# Altium integrated library Texas Instruments Power Management PWM Controller.IntLib: 1227 symbols (part 11 of 49)
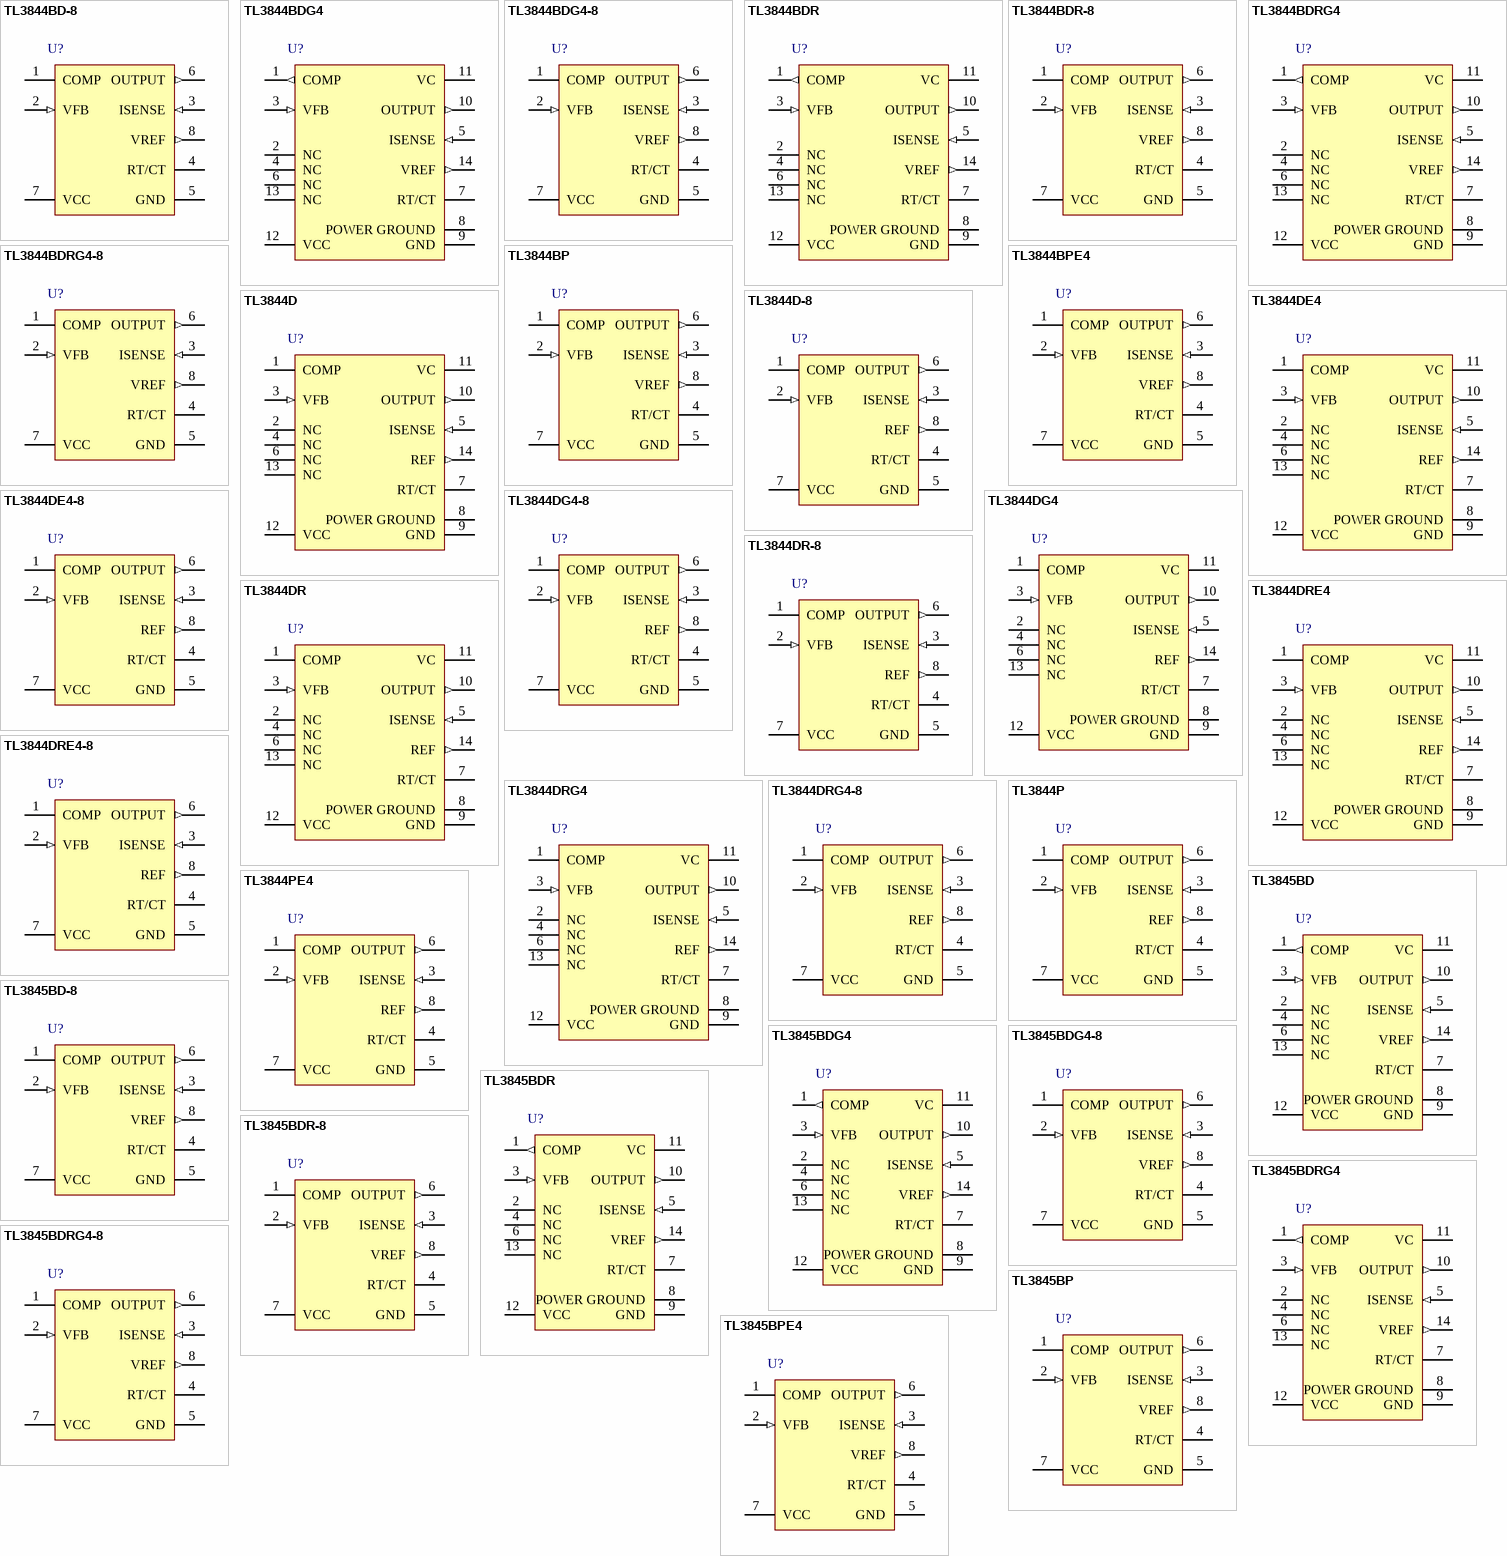
[diagram p53: symbols TL3844BD-8 to TL3845BPE4]

## TL3844DRG4
designator U?
PWM Controller with Current Control, 50 % Duty Cycle, 0 to +70 degC, 14-pin SOIC (D), Green (RoHS & no Sb/Br); PartNumber: TL3844DRG4; Manufacturer: Texas Instruments; Duty Cycle(Max)(%): 50; Frequency(Max)(kHz): 500; Rating: Catalog; Regulated Outputs(#): 1; Topology: Boost, Flyback, Forward; UVLO Thresholds On/Off(V): 16/10; DatasheetVersion: SLVS038G; PackageVersion: revM, Jun-2011; PackageReference: D14; PackageDescription: 14-Pin Plastic Small Outline Integrated Circuit, 8.7 x 3.9 mm, Pitch 1.27 mm Pitch; Supplier 1: Digi-Key; Supplier Part Number 1: TL3844DRG4-ND; Supplier 2: Newark; Supplier Part Number 2: 41M5663; Supplier 3: Mouser; Supplier Part Number 3: 595-TL3844DRG4; Control Method: Current; Eco-Plan: Green (RoHS & no Sb/Br); SubFamily: PWM Controller; Mounting Technology: Surface Mount; Code_JEDEC: MS-012AB; ComponentLink1Description: Datasheet; ComponentLink1URL: http://www.ti.com/general/docs/lit/getliterature.tsp?genericPartNumber=TL3844&fileType=pdf
footprint D14_N (SOIC, 14-Leads, Body 8.7x3.9mm, Pitch 1.27mm, IPC Medium Density)
footprint D14_L (SOIC, 14-Leads, Body 8.7x3.9mm, Pitch 1.27mm, IPC High Density)
footprint D14_M (SOIC, 14-Leads, Body 8.7x3.9mm, Pitch 1.27mm, IPC Low Density)
pins: 1 COMP, 2 NC, 3 VFB (in), 4 NC, 5 ISENSE (in), 6 NC, 7 RT/CT, 8 POWER GROUND (power), 9 GND (power), 10 OUTPUT (out), 11 VC (power), 12 VCC (power), 13 NC, 14 REF (out)

## TL3844DRG4-8
designator U?
PWM Controller with Current Control, 50 % Duty Cycle, 0 to +70 degC, 8-pin SOIC (D), Green (RoHS & no Sb/Br); PartNumber: TL3844DRG4-8; Manufacturer: Texas Instruments; Duty Cycle(Max)(%): 50; Frequency(Max)(kHz): 500; Rating: Catalog; Regulated Outputs(#): 1; Topology: Boost, Flyback, Forward; UVLO Thresholds On/Off(V): 16/10; DatasheetVersion: SLVS038G; PackageVersion: revM, Jun-2011; PackageReference: D8; PackageDescription: 8-Pin Plastic Small Outline Integrated Circuit, 4.9 x 3.9 mm, Pitch 1.27 mm Pitch; Supplier 1: Digi-Key; Supplier Part Number 1: TL3844DRG4-8-ND; Supplier 2: Newark; Supplier Part Number 2: 41M5664; Supplier 3: Mouser; Supplier Part Number 3: 595-TL3844DRG4-8; Control Method: Current; Eco-Plan: Green (RoHS & no Sb/Br); SubFamily: PWM Controller; Mounting Technology: Surface Mount; Code_JEDEC: MS-012AA; ComponentLink1Description: Datasheet; ComponentLink1URL: http://www.ti.com/general/docs/lit/getliterature.tsp?genericPartNumber=TL3844&fileType=pdf
footprint D8_N (SOIC, 8-Leads, Body 4.9x3.9mm, Pitch 1.27mm, IPC Medium Density)
footprint D8_L (SOIC, 8-Leads, Body 4.9x3.9mm, Pitch 1.27mm, IPC High Density)
footprint D8_M (SOIC, 8-Leads, Body 4.9x3.9mm, Pitch 1.27mm, IPC Low Density)
pins: 1 COMP, 2 VFB (in), 3 ISENSE (in), 4 RT/CT, 5 GND (power), 6 OUTPUT (out), 7 VCC (power), 8 REF (out)

## TL3844P
designator U?
PWM Controller with Current Control, 50 % Duty Cycle, 0 to +70 degC, 8-pin PDIP (P), Pb-Free (RoHS); PartNumber: TL3844P; Manufacturer: Texas Instruments; Duty Cycle(Max)(%): 50; Frequency(Max)(kHz): 500; Rating: Catalog; Regulated Outputs(#): 1; Topology: Boost, Flyback, Forward; UVLO Thresholds On/Off(V): 16/10; DatasheetVersion: SLVS038G; PackageVersion: revE, Apr-2010; PackageReference: P8; PackageDescription: 8-Pin Plastic Dual-In-Line Package, Row Spacing 7.62 mm, Pitch 2.54 mm; Supplier 1: Digi-Key; Supplier Part Number 1: 296-10178-5-ND; Supplier 2: Farnell; Supplier Part Number 2: 1287646; Supplier 3: Newark; Supplier Part Number 3: 76C9251; Supplier 4: Mouser; Supplier Part Number 4: 595-TL3844P; Control Method: Current; Eco-Plan: Pb-Free (RoHS); SubFamily: PWM Controller; Mounting Technology: Through Hole; Code_JEDEC: MS-001-BA; ComponentLink1Description: Datasheet; ComponentLink1URL: http://www.ti.com/general/docs/lit/getliterature.tsp?genericPartNumber=TL3844&fileType=pdf
footprint P8 (DIP, 8-Leads, Row Spacing 7.62mm, Pitch 2.54mm, Body 9.6x6.4mm)
pins: 1 COMP, 2 VFB (in), 3 ISENSE (in), 4 RT/CT, 5 GND (power), 6 OUTPUT (out), 7 VCC (power), 8 REF (out)

## TL3844PE4
designator U?
PWM Controller with Current Control, 50 % Duty Cycle, 0 to +70 degC, 8-pin PDIP (P), Pb-Free (RoHS); PartNumber: TL3844PE4; Manufacturer: Texas Instruments; Duty Cycle(Max)(%): 50; Frequency(Max)(kHz): 500; Rating: Catalog; Regulated Outputs(#): 1; Topology: Boost, Flyback, Forward; UVLO Thresholds On/Off(V): 16/10; DatasheetVersion: SLVS038G; PackageVersion: revE, Apr-2010; PackageReference: P8; PackageDescription: 8-Pin Plastic Dual-In-Line Package, Row Spacing 7.62 mm, Pitch 2.54 mm; Supplier 1: Digi-Key; Supplier Part Number 1: TL3844PE4-ND; Supplier 2: Newark; Supplier Part Number 2: 37K4468; Supplier 3: Mouser; Supplier Part Number 3: 595-TL3844PE4; Control Method: Current; Eco-Plan: Pb-Free (RoHS); SubFamily: PWM Controller; Mounting Technology: Through Hole; Code_JEDEC: MS-001-BA; ComponentLink1Description: Datasheet; ComponentLink1URL: http://www.ti.com/general/docs/lit/getliterature.tsp?genericPartNumber=TL3844&fileType=pdf
footprint P8 (DIP, 8-Leads, Row Spacing 7.62mm, Pitch 2.54mm, Body 9.6x6.4mm)
pins: 1 COMP, 2 VFB (in), 3 ISENSE (in), 4 RT/CT, 5 GND (power), 6 OUTPUT (out), 7 VCC (power), 8 REF (out)

## TL3845BD
designator U?
High-Performance PWM Controller with Current Control, 50 % Duty Cycle, 0 to +70 degC, 14-pin SOIC (D), Green (RoHS & no Sb/Br); PartNumber: TL3845BD; Manufacturer: Texas Instruments; Duty Cycle(Max)(%): 50; Frequency(Max)(kHz): 500; Rating: Catalog; Regulated Outputs(#): 1; Topology: Boost, Flyback, Forward; UVLO Thresholds On/Off(V): 8.4/7.6; DatasheetVersion: SLVS610B; PackageVersion: revM, Jun-2011; PackageReference: D14; PackageDescription: 14-Pin Plastic Small Outline Integrated Circuit, 8.7 x 3.9 mm, Pitch 1.27 mm Pitch; Supplier 1: Digi-Key; Supplier Part Number 1: 296-34301-5-ND; Supplier 2: Newark; Supplier Part Number 2: 14M2425; Supplier 3: Mouser; Supplier Part Number 3: 595-TL3845BD; Control Method: Current; Eco-Plan: Green (RoHS & no Sb/Br); SubFamily: PWM Controller; Mounting Technology: Surface Mount; Code_JEDEC: MS-012AB; ComponentLink1Description: Datasheet; ComponentLink1URL: http://www.ti.com/general/docs/lit/getliterature.tsp?genericPartNumber=TL3845B&fileType=pdf
footprint D14_N (SOIC, 14-Leads, Body 8.7x3.9mm, Pitch 1.27mm, IPC Medium Density)
footprint D14_L (SOIC, 14-Leads, Body 8.7x3.9mm, Pitch 1.27mm, IPC High Density)
footprint D14_M (SOIC, 14-Leads, Body 8.7x3.9mm, Pitch 1.27mm, IPC Low Density)
pins: 1 COMP (out), 2 NC, 3 VFB (in), 4 NC, 5 ISENSE (in), 6 NC, 7 RT/CT, 8 POWER GROUND (power), 9 GND (power), 10 OUTPUT (out), 11 VC (power), 12 VCC (power), 13 NC, 14 VREF (out)

## TL3845BD-8
designator U?
High-Performance PWM Controller with Current Control, 50 % Duty Cycle, 0 to +70 degC, 8-pin SOIC (D), Green (RoHS & no Sb/Br); PartNumber: TL3845BD-8; Manufacturer: Texas Instruments; Duty Cycle(Max)(%): 50; Frequency(Max)(kHz): 500; Rating: Catalog; Regulated Outputs(#): 1; Topology: Boost, Flyback, Forward; UVLO Thresholds On/Off(V): 8.4/7.6; DatasheetVersion: SLVS610B; PackageVersion: revM, Jun-2011; PackageReference: D8; PackageDescription: 8-Pin Plastic Small Outline Integrated Circuit, 4.9 x 3.9 mm, Pitch 1.27 mm Pitch; Supplier 1: Digi-Key; Supplier Part Number 1: 296-34302-5-ND; Supplier 2: Farnell; Supplier Part Number 2: 1363038; Supplier 3: Newark; Supplier Part Number 3: 14M2426; Supplier 4: Mouser; Supplier Part Number 4: 595-TL3845BD-8; Control Method: Current; Eco-Plan: Green (RoHS & no Sb/Br); SubFamily: PWM Controller; Mounting Technology: Surface Mount; Code_JEDEC: MS-012AA; ComponentLink1Description: Datasheet; ComponentLink1URL: http://www.ti.com/general/docs/lit/getliterature.tsp?genericPartNumber=TL3845B&fileType=pdf
footprint D8_N (SOIC, 8-Leads, Body 4.9x3.9mm, Pitch 1.27mm, IPC Medium Density)
footprint D8_L (SOIC, 8-Leads, Body 4.9x3.9mm, Pitch 1.27mm, IPC High Density)
footprint D8_M (SOIC, 8-Leads, Body 4.9x3.9mm, Pitch 1.27mm, IPC Low Density)
pins: 1 COMP, 2 VFB (in), 3 ISENSE (in), 4 RT/CT, 5 GND (power), 6 OUTPUT (out), 7 VCC (power), 8 VREF (out)

## TL3845BDG4
designator U?
High-Performance PWM Controller with Current Control, 50 % Duty Cycle, 0 to +70 degC, 14-pin SOIC (D), Green (RoHS & no Sb/Br); PartNumber: TL3845BDG4; Manufacturer: Texas Instruments; Duty Cycle(Max)(%): 50; Frequency(Max)(kHz): 500; Rating: Catalog; Regulated Outputs(#): 1; Topology: Boost, Flyback, Forward; UVLO Thresholds On/Off(V): 8.4/7.6; DatasheetVersion: SLVS610B; PackageVersion: revM, Jun-2011; PackageReference: D14; PackageDescription: 14-Pin Plastic Small Outline Integrated Circuit, 8.7 x 3.9 mm, Pitch 1.27 mm Pitch; Supplier 1: Digi-Key; Supplier Part Number 1: TL3845BDG4-ND; Supplier 2: Newark; Supplier Part Number 2: 14M2427; Supplier 3: Mouser; Supplier Part Number 3: 595-TL3845BDG4; Control Method: Current; Eco-Plan: Green (RoHS & no Sb/Br); SubFamily: PWM Controller; Mounting Technology: Surface Mount; Code_JEDEC: MS-012AB; ComponentLink1Description: Datasheet; ComponentLink1URL: http://www.ti.com/general/docs/lit/getliterature.tsp?genericPartNumber=TL3845B&fileType=pdf
footprint D14_N (SOIC, 14-Leads, Body 8.7x3.9mm, Pitch 1.27mm, IPC Medium Density)
footprint D14_L (SOIC, 14-Leads, Body 8.7x3.9mm, Pitch 1.27mm, IPC High Density)
footprint D14_M (SOIC, 14-Leads, Body 8.7x3.9mm, Pitch 1.27mm, IPC Low Density)
pins: 1 COMP (out), 2 NC, 3 VFB (in), 4 NC, 5 ISENSE (in), 6 NC, 7 RT/CT, 8 POWER GROUND (power), 9 GND (power), 10 OUTPUT (out), 11 VC (power), 12 VCC (power), 13 NC, 14 VREF (out)

## TL3845BDG4-8
designator U?
High-Performance PWM Controller with Current Control, 50 % Duty Cycle, 0 to +70 degC, 8-pin SOIC (D), Green (RoHS & no Sb/Br); PartNumber: TL3845BDG4-8; Manufacturer: Texas Instruments; Duty Cycle(Max)(%): 50; Frequency(Max)(kHz): 500; Rating: Catalog; Regulated Outputs(#): 1; Topology: Boost, Flyback, Forward; UVLO Thresholds On/Off(V): 8.4/7.6; DatasheetVersion: SLVS610B; PackageVersion: revM, Jun-2011; PackageReference: D8; PackageDescription: 8-Pin Plastic Small Outline Integrated Circuit, 4.9 x 3.9 mm, Pitch 1.27 mm Pitch; Supplier 1: Digi-Key; Supplier Part Number 1: TL3845BDG4-8-ND; Supplier 2: Newark; Supplier Part Number 2: 14M2428; Supplier 3: Mouser; Supplier Part Number 3: 595-TL3845BDG4-8; Control Method: Current; Eco-Plan: Green (RoHS & no Sb/Br); SubFamily: PWM Controller; Mounting Technology: Surface Mount; Code_JEDEC: MS-012AA; ComponentLink1Description: Datasheet; ComponentLink1URL: http://www.ti.com/general/docs/lit/getliterature.tsp?genericPartNumber=TL3845B&fileType=pdf
footprint D8_N (SOIC, 8-Leads, Body 4.9x3.9mm, Pitch 1.27mm, IPC Medium Density)
footprint D8_L (SOIC, 8-Leads, Body 4.9x3.9mm, Pitch 1.27mm, IPC High Density)
footprint D8_M (SOIC, 8-Leads, Body 4.9x3.9mm, Pitch 1.27mm, IPC Low Density)
pins: 1 COMP, 2 VFB (in), 3 ISENSE (in), 4 RT/CT, 5 GND (power), 6 OUTPUT (out), 7 VCC (power), 8 VREF (out)

## TL3845BDR
designator U?
High-Performance PWM Controller with Current Control, 50 % Duty Cycle, 0 to +70 degC, 14-pin SOIC (D), Green (RoHS & no Sb/Br); PartNumber: TL3845BDR; Manufacturer: Texas Instruments; Duty Cycle(Max)(%): 50; Frequency(Max)(kHz): 500; Rating: Catalog; Regulated Outputs(#): 1; Topology: Boost, Flyback, Forward; UVLO Thresholds On/Off(V): 8.4/7.6; DatasheetVersion: SLVS610B; PackageVersion: revM, Jun-2011; PackageReference: D14; PackageDescription: 14-Pin Plastic Small Outline Integrated Circuit, 8.7 x 3.9 mm, Pitch 1.27 mm Pitch; Supplier 1: Digi-Key; Supplier Part Number 1: 296-28807-2-ND; Supplier 2: Digi-Key; Supplier Part Number 2: 296-28807-1-ND; Supplier 3: Digi-Key; Supplier Part Number 3: 296-28807-6-ND; Supplier 4: Newark; Supplier Part Number 4: 14M2429; Supplier 5: Mouser; Supplier Part Number 5: 595-TL3845BDR; Control Method: Current; Eco-Plan: Green (RoHS & no Sb/Br); SubFamily: PWM Controller; Mounting Technology: Surface Mount; Code_JEDEC: MS-012AB; ComponentLink1Description: Datasheet; ComponentLink1URL: http://www.ti.com/general/docs/lit/getliterature.tsp?genericPartNumber=TL3845B&fileType=pdf
footprint D14_N (SOIC, 14-Leads, Body 8.7x3.9mm, Pitch 1.27mm, IPC Medium Density)
footprint D14_L (SOIC, 14-Leads, Body 8.7x3.9mm, Pitch 1.27mm, IPC High Density)
footprint D14_M (SOIC, 14-Leads, Body 8.7x3.9mm, Pitch 1.27mm, IPC Low Density)
pins: 1 COMP (out), 2 NC, 3 VFB (in), 4 NC, 5 ISENSE (in), 6 NC, 7 RT/CT, 8 POWER GROUND (power), 9 GND (power), 10 OUTPUT (out), 11 VC (power), 12 VCC (power), 13 NC, 14 VREF (out)

## TL3845BDR-8
designator U?
High-Performance PWM Controller with Current Control, 50 % Duty Cycle, 0 to +70 degC, 8-pin SOIC (D), Green (RoHS & no Sb/Br); PartNumber: TL3845BDR-8; Manufacturer: Texas Instruments; Duty Cycle(Max)(%): 50; Frequency(Max)(kHz): 500; Rating: Catalog; Regulated Outputs(#): 1; Topology: Boost, Flyback, Forward; UVLO Thresholds On/Off(V): 8.4/7.6; DatasheetVersion: SLVS610B; PackageVersion: revM, Jun-2011; PackageReference: D8; PackageDescription: 8-Pin Plastic Small Outline Integrated Circuit, 4.9 x 3.9 mm, Pitch 1.27 mm Pitch; Supplier 1: Digi-Key; Supplier Part Number 1: TL3845BDR-8-ND; Supplier 2: Newark; Supplier Part Number 2: 14M2430; Supplier 3: Mouser; Supplier Part Number 3: 595-TL3845BDR-8; Control Method: Current; Eco-Plan: Green (RoHS & no Sb/Br); SubFamily: PWM Controller; Mounting Technology: Surface Mount; Code_JEDEC: MS-012AA; ComponentLink1Description: Datasheet; ComponentLink1URL: http://www.ti.com/general/docs/lit/getliterature.tsp?genericPartNumber=TL3845B&fileType=pdf
footprint D8_N (SOIC, 8-Leads, Body 4.9x3.9mm, Pitch 1.27mm, IPC Medium Density)
footprint D8_L (SOIC, 8-Leads, Body 4.9x3.9mm, Pitch 1.27mm, IPC High Density)
footprint D8_M (SOIC, 8-Leads, Body 4.9x3.9mm, Pitch 1.27mm, IPC Low Density)
pins: 1 COMP, 2 VFB (in), 3 ISENSE (in), 4 RT/CT, 5 GND (power), 6 OUTPUT (out), 7 VCC (power), 8 VREF (out)

## TL3845BDRG4
designator U?
High-Performance PWM Controller with Current Control, 50 % Duty Cycle, 0 to +70 degC, 14-pin SOIC (D), Green (RoHS & no Sb/Br); PartNumber: TL3845BDRG4; Manufacturer: Texas Instruments; Duty Cycle(Max)(%): 50; Frequency(Max)(kHz): 500; Rating: Catalog; Regulated Outputs(#): 1; Topology: Boost, Flyback, Forward; UVLO Thresholds On/Off(V): 8.4/7.6; DatasheetVersion: SLVS610B; PackageVersion: revM, Jun-2011; PackageReference: D14; PackageDescription: 14-Pin Plastic Small Outline Integrated Circuit, 8.7 x 3.9 mm, Pitch 1.27 mm Pitch; Supplier 1: Digi-Key; Supplier Part Number 1: TL3845BDRG4-ND; Supplier 2: Newark; Supplier Part Number 2: 14M2431; Supplier 3: Mouser; Supplier Part Number 3: 595-TL3845BDRG4; Control Method: Current; Eco-Plan: Green (RoHS & no Sb/Br); SubFamily: PWM Controller; Mounting Technology: Surface Mount; Code_JEDEC: MS-012AB; ComponentLink1Description: Datasheet; ComponentLink1URL: http://www.ti.com/general/docs/lit/getliterature.tsp?genericPartNumber=TL3845B&fileType=pdf
footprint D14_N (SOIC, 14-Leads, Body 8.7x3.9mm, Pitch 1.27mm, IPC Medium Density)
footprint D14_L (SOIC, 14-Leads, Body 8.7x3.9mm, Pitch 1.27mm, IPC High Density)
footprint D14_M (SOIC, 14-Leads, Body 8.7x3.9mm, Pitch 1.27mm, IPC Low Density)
pins: 1 COMP (out), 2 NC, 3 VFB (in), 4 NC, 5 ISENSE (in), 6 NC, 7 RT/CT, 8 POWER GROUND (power), 9 GND (power), 10 OUTPUT (out), 11 VC (power), 12 VCC (power), 13 NC, 14 VREF (out)

## TL3845BDRG4-8
designator U?
High-Performance PWM Controller with Current Control, 50 % Duty Cycle, 0 to +70 degC, 8-pin SOIC (D), Green (RoHS & no Sb/Br); PartNumber: TL3845BDRG4-8; Manufacturer: Texas Instruments; Duty Cycle(Max)(%): 50; Frequency(Max)(kHz): 500; Rating: Catalog; Regulated Outputs(#): 1; Topology: Boost, Flyback, Forward; UVLO Thresholds On/Off(V): 8.4/7.6; DatasheetVersion: SLVS610B; PackageVersion: revM, Jun-2011; PackageReference: D8; PackageDescription: 8-Pin Plastic Small Outline Integrated Circuit, 4.9 x 3.9 mm, Pitch 1.27 mm Pitch; Supplier 1: Digi-Key; Supplier Part Number 1: TL3845BDRG4-8-ND; Supplier 2: Newark; Supplier Part Number 2: 14M2432; Supplier 3: Mouser; Supplier Part Number 3: 595-TL3845BDRG4-8; Control Method: Current; Eco-Plan: Green (RoHS & no Sb/Br); SubFamily: PWM Controller; Mounting Technology: Surface Mount; Code_JEDEC: MS-012AA; ComponentLink1Description: Datasheet; ComponentLink1URL: http://www.ti.com/general/docs/lit/getliterature.tsp?genericPartNumber=TL3845B&fileType=pdf
footprint D8_N (SOIC, 8-Leads, Body 4.9x3.9mm, Pitch 1.27mm, IPC Medium Density)
footprint D8_L (SOIC, 8-Leads, Body 4.9x3.9mm, Pitch 1.27mm, IPC High Density)
footprint D8_M (SOIC, 8-Leads, Body 4.9x3.9mm, Pitch 1.27mm, IPC Low Density)
pins: 1 COMP, 2 VFB (in), 3 ISENSE (in), 4 RT/CT, 5 GND (power), 6 OUTPUT (out), 7 VCC (power), 8 VREF (out)

## TL3845BP
designator U?
High-Performance PWM Controller with Current Control, 50 % Duty Cycle, 0 to +70 degC, 8-pin PDIP (P), Pb-Free (RoHS); PartNumber: TL3845BP; Manufacturer: Texas Instruments; Duty Cycle(Max)(%): 50; Frequency(Max)(kHz): 500; Rating: Catalog; Regulated Outputs(#): 1; Topology: Boost, Flyback, Forward; UVLO Thresholds On/Off(V): 8.4/7.6; DatasheetVersion: SLVS610B; PackageVersion: revE, Apr-2010; PackageReference: P8; PackageDescription: 8-Pin Plastic Dual-In-Line Package, Row Spacing 7.62 mm, Pitch 2.54 mm; Supplier 1: Digi-Key; Supplier Part Number 1: 296-34303-5-ND; Supplier 2: Newark; Supplier Part Number 2: 14M2433; Supplier 3: Mouser; Supplier Part Number 3: 595-TL3845BP; Control Method: Current; Eco-Plan: Pb-Free (RoHS); SubFamily: PWM Controller; Mounting Technology: Through Hole; Code_JEDEC: MS-001-BA; ComponentLink1Description: Datasheet; ComponentLink1URL: http://www.ti.com/general/docs/lit/getliterature.tsp?genericPartNumber=TL3845B&fileType=pdf
footprint P8 (DIP, 8-Leads, Row Spacing 7.62mm, Pitch 2.54mm, Body 9.6x6.4mm)
pins: 1 COMP, 2 VFB (in), 3 ISENSE (in), 4 RT/CT, 5 GND (power), 6 OUTPUT (out), 7 VCC (power), 8 VREF (out)

## TL3845BPE4
designator U?
High-Performance PWM Controller with Current Control, 50 % Duty Cycle, 0 to +70 degC, 8-pin PDIP (P), Pb-Free (RoHS); PartNumber: TL3845BPE4; Manufacturer: Texas Instruments; Duty Cycle(Max)(%): 50; Frequency(Max)(kHz): 500; Rating: Catalog; Regulated Outputs(#): 1; Topology: Boost, Flyback, Forward; UVLO Thresholds On/Off(V): 8.4/7.6; DatasheetVersion: SLVS610B; PackageVersion: revE, Apr-2010; PackageReference: P8; PackageDescription: 8-Pin Plastic Dual-In-Line Package, Row Spacing 7.62 mm, Pitch 2.54 mm; Supplier 1: Digi-Key; Supplier Part Number 1: TL3845BPE4-ND; Supplier 2: Newark; Supplier Part Number 2: 14M2434; Supplier 3: Mouser; Supplier Part Number 3: 595-TL3845BPE4; Control Method: Current; Eco-Plan: Pb-Free (RoHS); SubFamily: PWM Controller; Mounting Technology: Through Hole; Code_JEDEC: MS-001-BA; ComponentLink1Description: Datasheet; ComponentLink1URL: http://www.ti.com/general/docs/lit/getliterature.tsp?genericPartNumber=TL3845B&fileType=pdf
footprint P8 (DIP, 8-Leads, Row Spacing 7.62mm, Pitch 2.54mm, Body 9.6x6.4mm)
pins: 1 COMP, 2 VFB (in), 3 ISENSE (in), 4 RT/CT, 5 GND (power), 6 OUTPUT (out), 7 VCC (power), 8 VREF (out)

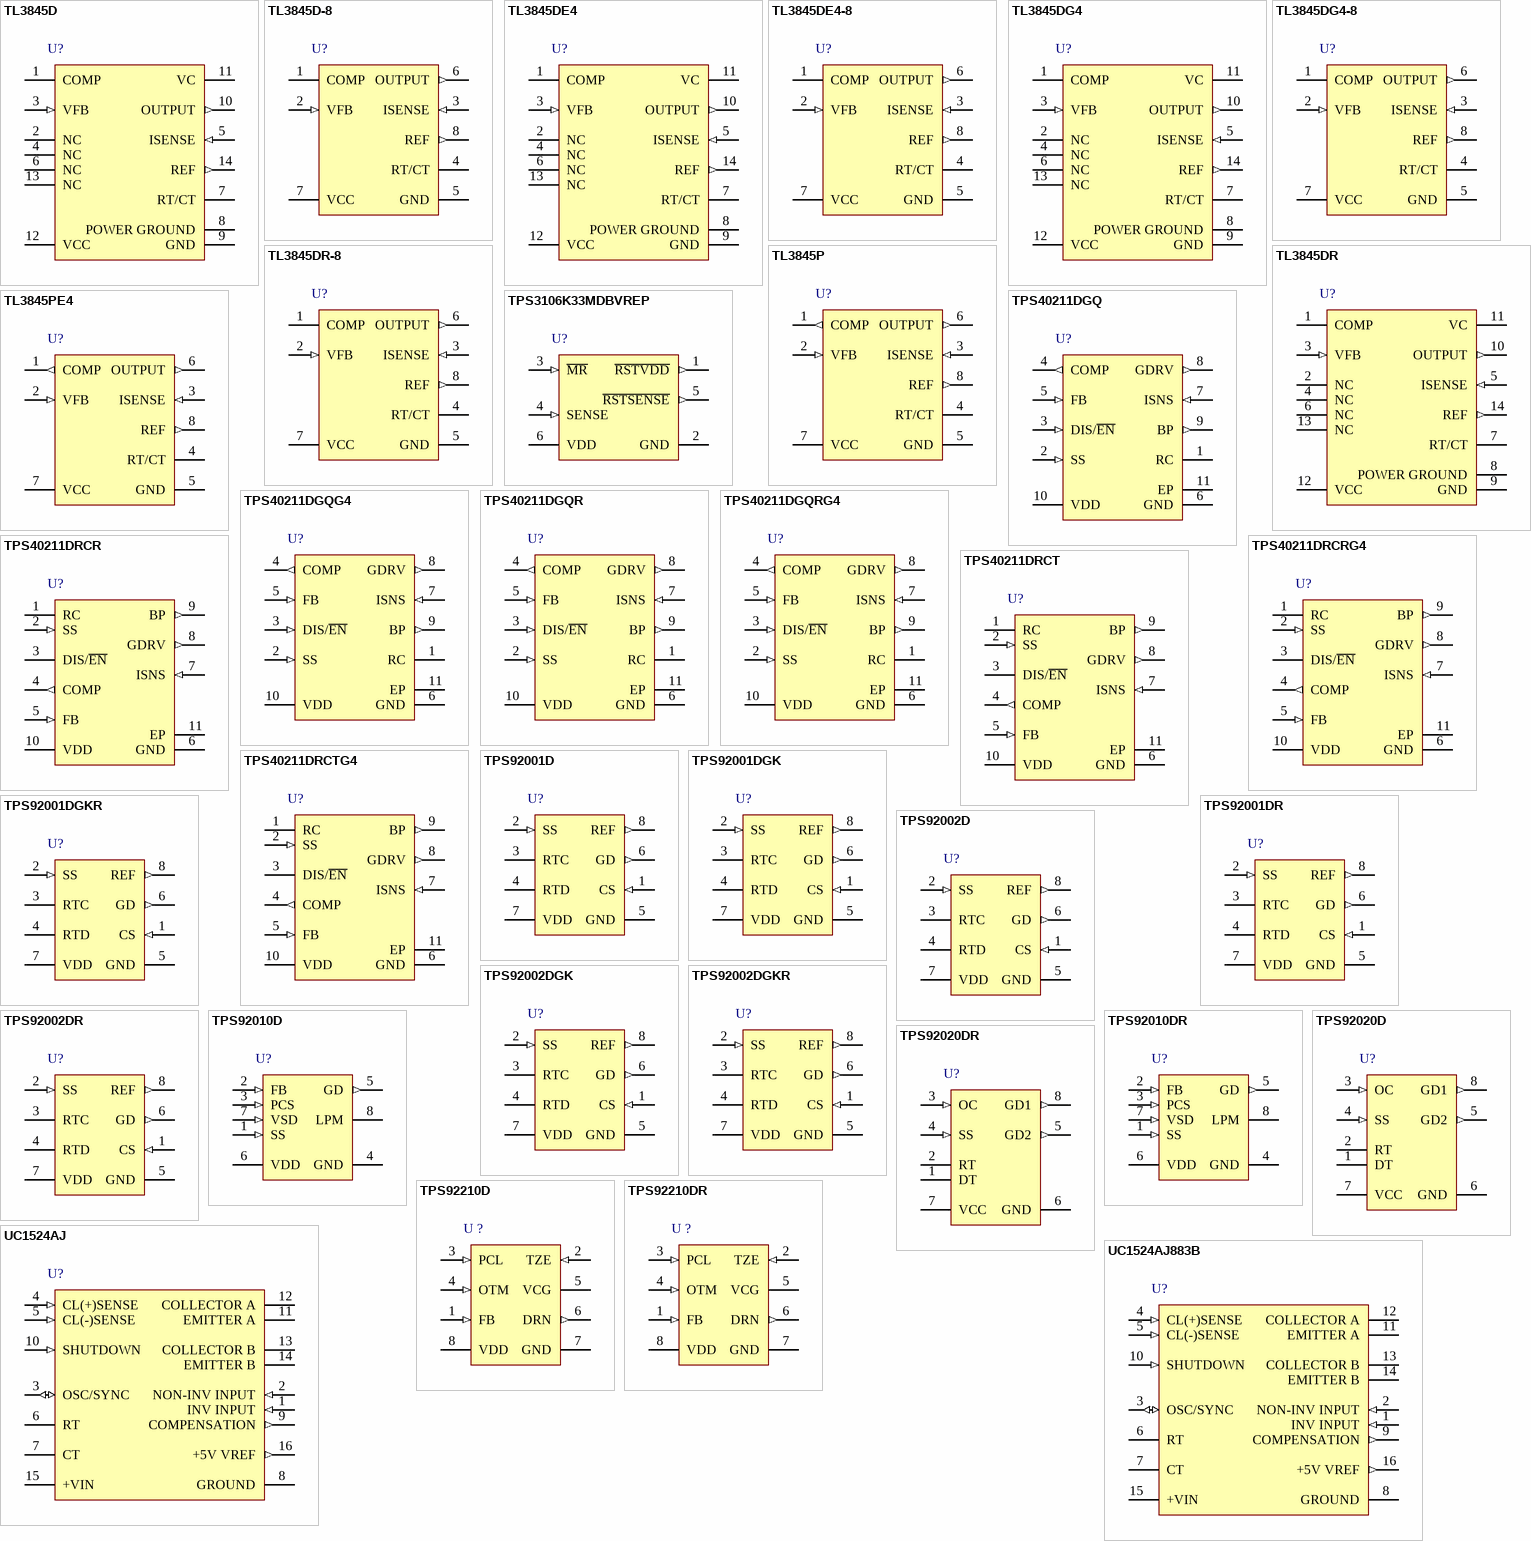
[diagram p12: symbols TL3845D to UC1524AJ883B]

## TL3845D
designator U?
PWM Controller with Current Control, 50 % Duty Cycle, 0 to +70 degC, 14-pin SOIC (D), Green (RoHS & no Sb/Br); PartNumber: TL3845D; Manufacturer: Texas Instruments; Duty Cycle(Max)(%): 50; Frequency(Max)(kHz): 500; Rating: Catalog; Regulated Outputs(#): 1; Topology: Boost, Flyback, Forward; UVLO Thresholds On/Off(V): 8.4/7.6; DatasheetVersion: SLVS038G; PackageVersion: revM, Jun-2011; PackageReference: D14; PackageDescription: 14-Pin Plastic Small Outline Integrated Circuit, 8.7 x 3.9 mm, Pitch 1.27 mm Pitch; Supplier 1: Digi-Key; Supplier Part Number 1: 296-34304-5-ND; Supplier 2: Newark; Supplier Part Number 2: 76C9252; Supplier 3: Mouser; Supplier Part Number 3: 595-TL3845D; Control Method: Current; Eco-Plan: Green (RoHS & no Sb/Br); SubFamily: PWM Controller; Mounting Technology: Surface Mount; Code_JEDEC: MS-012AB; ComponentLink1Description: Datasheet; ComponentLink1URL: http://www.ti.com/general/docs/lit/getliterature.tsp?genericPartNumber=TL3845&fileType=pdf
footprint D14_N (SOIC, 14-Leads, Body 8.7x3.9mm, Pitch 1.27mm, IPC Medium Density)
footprint D14_L (SOIC, 14-Leads, Body 8.7x3.9mm, Pitch 1.27mm, IPC High Density)
footprint D14_M (SOIC, 14-Leads, Body 8.7x3.9mm, Pitch 1.27mm, IPC Low Density)
pins: 1 COMP, 2 NC, 3 VFB (in), 4 NC, 5 ISENSE (in), 6 NC, 7 RT/CT, 8 POWER GROUND (power), 9 GND (power), 10 OUTPUT (out), 11 VC (power), 12 VCC (power), 13 NC, 14 REF (out)

## TL3845D-8
designator U?
PWM Controller with Current Control, 50 % Duty Cycle, 0 to +70 degC, 8-pin SOIC (D), Green (RoHS & no Sb/Br); PartNumber: TL3845D-8; Manufacturer: Texas Instruments; Duty Cycle(Max)(%): 50; Frequency(Max)(kHz): 500; Rating: Catalog; Regulated Outputs(#): 1; Topology: Boost, Flyback, Forward; UVLO Thresholds On/Off(V): 8.4/7.6; DatasheetVersion: SLVS038G; PackageVersion: revM, Jun-2011; PackageReference: D8; PackageDescription: 8-Pin Plastic Small Outline Integrated Circuit, 4.9 x 3.9 mm, Pitch 1.27 mm Pitch; Supplier 1: Digi-Key; Supplier Part Number 1: 296-34305-5-ND; Supplier 2: Newark; Supplier Part Number 2: 76C9253; Supplier 3: Mouser; Supplier Part Number 3: 595-TL3845D-8; Control Method: Current; Eco-Plan: Green (RoHS & no Sb/Br); SubFamily: PWM Controller; Mounting Technology: Surface Mount; Code_JEDEC: MS-012AA; ComponentLink1Description: Datasheet; ComponentLink1URL: http://www.ti.com/general/docs/lit/getliterature.tsp?genericPartNumber=TL3845&fileType=pdf
footprint D8_N (SOIC, 8-Leads, Body 4.9x3.9mm, Pitch 1.27mm, IPC Medium Density)
footprint D8_L (SOIC, 8-Leads, Body 4.9x3.9mm, Pitch 1.27mm, IPC High Density)
footprint D8_M (SOIC, 8-Leads, Body 4.9x3.9mm, Pitch 1.27mm, IPC Low Density)
pins: 1 COMP, 2 VFB (in), 3 ISENSE (in), 4 RT/CT, 5 GND (power), 6 OUTPUT (out), 7 VCC (power), 8 REF (out)

## TL3845DE4
designator U?
PWM Controller with Current Control, 50 % Duty Cycle, 0 to +70 degC, 14-pin SOIC (D), Green (RoHS & no Sb/Br); PartNumber: TL3845DE4; Manufacturer: Texas Instruments; Duty Cycle(Max)(%): 50; Frequency(Max)(kHz): 500; Rating: Catalog; Regulated Outputs(#): 1; Topology: Boost, Flyback, Forward; UVLO Thresholds On/Off(V): 8.4/7.6; DatasheetVersion: SLVS038G; PackageVersion: revM, Jun-2011; PackageReference: D14; PackageDescription: 14-Pin Plastic Small Outline Integrated Circuit, 8.7 x 3.9 mm, Pitch 1.27 mm Pitch; Supplier 1: Digi-Key; Supplier Part Number 1: TL3845DE4-ND; Supplier 2: Newark; Supplier Part Number 2: 37K4469; Supplier 3: Mouser; Supplier Part Number 3: 595-TL3845DE4; Control Method: Current; Eco-Plan: Green (RoHS & no Sb/Br); SubFamily: PWM Controller; Mounting Technology: Surface Mount; Code_JEDEC: MS-012AB; ComponentLink1Description: Datasheet; ComponentLink1URL: http://www.ti.com/general/docs/lit/getliterature.tsp?genericPartNumber=TL3845&fileType=pdf
footprint D14_N (SOIC, 14-Leads, Body 8.7x3.9mm, Pitch 1.27mm, IPC Medium Density)
footprint D14_L (SOIC, 14-Leads, Body 8.7x3.9mm, Pitch 1.27mm, IPC High Density)
footprint D14_M (SOIC, 14-Leads, Body 8.7x3.9mm, Pitch 1.27mm, IPC Low Density)
pins: 1 COMP, 2 NC, 3 VFB (in), 4 NC, 5 ISENSE (in), 6 NC, 7 RT/CT, 8 POWER GROUND (power), 9 GND (power), 10 OUTPUT (out), 11 VC (power), 12 VCC (power), 13 NC, 14 REF (out)

## TL3845DE4-8
designator U?
PWM Controller with Current Control, 50 % Duty Cycle, 0 to +70 degC, 8-pin SOIC (D), Green (RoHS & no Sb/Br); PartNumber: TL3845DE4-8; Manufacturer: Texas Instruments; Duty Cycle(Max)(%): 50; Frequency(Max)(kHz): 500; Rating: Catalog; Regulated Outputs(#): 1; Topology: Boost, Flyback, Forward; UVLO Thresholds On/Off(V): 8.4/7.6; DatasheetVersion: SLVS038G; PackageVersion: revM, Jun-2011; PackageReference: D8; PackageDescription: 8-Pin Plastic Small Outline Integrated Circuit, 4.9 x 3.9 mm, Pitch 1.27 mm Pitch; Supplier 1: Digi-Key; Supplier Part Number 1: TL3845DE4-8-ND; Supplier 2: Newark; Supplier Part Number 2: 37K4470; Supplier 3: Mouser; Supplier Part Number 3: 595-TL3845DE4-8; Control Method: Current; Eco-Plan: Green (RoHS & no Sb/Br); SubFamily: PWM Controller; Mounting Technology: Surface Mount; Code_JEDEC: MS-012AA; ComponentLink1Description: Datasheet; ComponentLink1URL: http://www.ti.com/general/docs/lit/getliterature.tsp?genericPartNumber=TL3845&fileType=pdf
footprint D8_N (SOIC, 8-Leads, Body 4.9x3.9mm, Pitch 1.27mm, IPC Medium Density)
footprint D8_L (SOIC, 8-Leads, Body 4.9x3.9mm, Pitch 1.27mm, IPC High Density)
footprint D8_M (SOIC, 8-Leads, Body 4.9x3.9mm, Pitch 1.27mm, IPC Low Density)
pins: 1 COMP, 2 VFB (in), 3 ISENSE (in), 4 RT/CT, 5 GND (power), 6 OUTPUT (out), 7 VCC (power), 8 REF (out)

## TL3845DG4
designator U?
PWM Controller with Current Control, 50 % Duty Cycle, 0 to +70 degC, 14-pin SOIC (D), Green (RoHS & no Sb/Br); PartNumber: TL3845DG4; Manufacturer: Texas Instruments; Duty Cycle(Max)(%): 50; Frequency(Max)(kHz): 500; Rating: Catalog; Regulated Outputs(#): 1; Topology: Boost, Flyback, Forward; UVLO Thresholds On/Off(V): 8.4/7.6; DatasheetVersion: SLVS038G; PackageVersion: revM, Jun-2011; PackageReference: D14; PackageDescription: 14-Pin Plastic Small Outline Integrated Circuit, 8.7 x 3.9 mm, Pitch 1.27 mm Pitch; Supplier 1: Digi-Key; Supplier Part Number 1: TL3845DG4-ND; Supplier 2: Newark; Supplier Part Number 2: 41M5665; Supplier 3: Mouser; Supplier Part Number 3: 595-TL3845DG4; Control Method: Current; Eco-Plan: Green (RoHS & no Sb/Br); SubFamily: PWM Controller; Mounting Technology: Surface Mount; Code_JEDEC: MS-012AB; ComponentLink1Description: Datasheet; ComponentLink1URL: http://www.ti.com/general/docs/lit/getliterature.tsp?genericPartNumber=TL3845&fileType=pdf
footprint D14_N (SOIC, 14-Leads, Body 8.7x3.9mm, Pitch 1.27mm, IPC Medium Density)
footprint D14_L (SOIC, 14-Leads, Body 8.7x3.9mm, Pitch 1.27mm, IPC High Density)
footprint D14_M (SOIC, 14-Leads, Body 8.7x3.9mm, Pitch 1.27mm, IPC Low Density)
pins: 1 COMP, 2 NC, 3 VFB (in), 4 NC, 5 ISENSE (in), 6 NC, 7 RT/CT, 8 POWER GROUND (power), 9 GND (power), 10 OUTPUT (out), 11 VC (power), 12 VCC (power), 13 NC, 14 REF (out)

## TL3845DG4-8
designator U?
PWM Controller with Current Control, 50 % Duty Cycle, 0 to +70 degC, 8-pin SOIC (D), Green (RoHS & no Sb/Br); PartNumber: TL3845DG4-8; Manufacturer: Texas Instruments; Duty Cycle(Max)(%): 50; Frequency(Max)(kHz): 500; Rating: Catalog; Regulated Outputs(#): 1; Topology: Boost, Flyback, Forward; UVLO Thresholds On/Off(V): 8.4/7.6; DatasheetVersion: SLVS038G; PackageVersion: revM, Jun-2011; PackageReference: D8; PackageDescription: 8-Pin Plastic Small Outline Integrated Circuit, 4.9 x 3.9 mm, Pitch 1.27 mm Pitch; Supplier 1: Digi-Key; Supplier Part Number 1: TL3845DG4-8-ND; Supplier 2: Newark; Supplier Part Number 2: 41M5666; Supplier 3: Mouser; Supplier Part Number 3: 595-TL3845DG4-8; Control Method: Current; Eco-Plan: Green (RoHS & no Sb/Br); SubFamily: PWM Controller; Mounting Technology: Surface Mount; Code_JEDEC: MS-012AA; ComponentLink1Description: Datasheet; ComponentLink1URL: http://www.ti.com/general/docs/lit/getliterature.tsp?genericPartNumber=TL3845&fileType=pdf
footprint D8_N (SOIC, 8-Leads, Body 4.9x3.9mm, Pitch 1.27mm, IPC Medium Density)
footprint D8_L (SOIC, 8-Leads, Body 4.9x3.9mm, Pitch 1.27mm, IPC High Density)
footprint D8_M (SOIC, 8-Leads, Body 4.9x3.9mm, Pitch 1.27mm, IPC Low Density)
pins: 1 COMP, 2 VFB (in), 3 ISENSE (in), 4 RT/CT, 5 GND (power), 6 OUTPUT (out), 7 VCC (power), 8 REF (out)

## TL3845DR
designator U?
PWM Controller with Current Control, 50 % Duty Cycle, 0 to +70 degC, 14-pin SOIC (D), Green (RoHS & no Sb/Br); PartNumber: TL3845DR; Manufacturer: Texas Instruments; Duty Cycle(Max)(%): 50; Frequency(Max)(kHz): 500; Rating: Catalog; Regulated Outputs(#): 1; Topology: Boost, Flyback, Forward; UVLO Thresholds On/Off(V): 8.4/7.6; DatasheetVersion: SLVS038G; PackageVersion: revM, Jun-2011; PackageReference: D14; PackageDescription: 14-Pin Plastic Small Outline Integrated Circuit, 8.7 x 3.9 mm, Pitch 1.27 mm Pitch; Supplier 1: Digi-Key; Supplier Part Number 1: 296-15011-2-ND; Supplier 2: Digi-Key; Supplier Part Number 2: 296-15011-1-ND; Supplier 3: Digi-Key; Supplier Part Number 3: 296-15011-6-ND; Supplier 4: Newark; Supplier Part Number 4: 76C9254; Supplier 5: Mouser; Supplier Part Number 5: 595-TL3845DR; Control Method: Current; Eco-Plan: Green (RoHS & no Sb/Br); SubFamily: PWM Controller; Mounting Technology: Surface Mount; Code_JEDEC: MS-012AB; ComponentLink1Description: Datasheet; ComponentLink1URL: http://www.ti.com/general/docs/lit/getliterature.tsp?genericPartNumber=TL3845&fileType=pdf
footprint D14_N (SOIC, 14-Leads, Body 8.7x3.9mm, Pitch 1.27mm, IPC Medium Density)
footprint D14_L (SOIC, 14-Leads, Body 8.7x3.9mm, Pitch 1.27mm, IPC High Density)
footprint D14_M (SOIC, 14-Leads, Body 8.7x3.9mm, Pitch 1.27mm, IPC Low Density)
pins: 1 COMP, 2 NC, 3 VFB (in), 4 NC, 5 ISENSE (in), 6 NC, 7 RT/CT, 8 POWER GROUND (power), 9 GND (power), 10 OUTPUT (out), 11 VC (power), 12 VCC (power), 13 NC, 14 REF (out)

## TL3845DR-8
designator U?
PWM Controller with Current Control, 50 % Duty Cycle, 0 to +70 degC, 8-pin SOIC (D), Green (RoHS & no Sb/Br); PartNumber: TL3845DR-8; Manufacturer: Texas Instruments; Duty Cycle(Max)(%): 50; Frequency(Max)(kHz): 500; Rating: Catalog; Regulated Outputs(#): 1; Topology: Boost, Flyback, Forward; UVLO Thresholds On/Off(V): 8.4/7.6; DatasheetVersion: SLVS038G; PackageVersion: revM, Jun-2011; PackageReference: D8; PackageDescription: 8-Pin Plastic Small Outline Integrated Circuit, 4.9 x 3.9 mm, Pitch 1.27 mm Pitch; Supplier 1: Digi-Key; Supplier Part Number 1: 296-10179-2-ND; Supplier 2: Digi-Key; Supplier Part Number 2: 296-10179-1-ND; Supplier 3: Digi-Key; Supplier Part Number 3: 296-10179-6-ND; Supplier 4: Newark; Supplier Part Number 4: 76C9255; Supplier 5: Mouser; Supplier Part Number 5: 595-TL3845DR-8; Control Method: Current; Eco-Plan: Green (RoHS & no Sb/Br); SubFamily: PWM Controller; Mounting Technology: Surface Mount; Code_JEDEC: MS-012AA; ComponentLink1Description: Datasheet; ComponentLink1URL: http://www.ti.com/general/docs/lit/getliterature.tsp?genericPartNumber=TL3845&fileType=pdf
footprint D8_N (SOIC, 8-Leads, Body 4.9x3.9mm, Pitch 1.27mm, IPC Medium Density)
footprint D8_L (SOIC, 8-Leads, Body 4.9x3.9mm, Pitch 1.27mm, IPC High Density)
footprint D8_M (SOIC, 8-Leads, Body 4.9x3.9mm, Pitch 1.27mm, IPC Low Density)
pins: 1 COMP, 2 VFB (in), 3 ISENSE (in), 4 RT/CT, 5 GND (power), 6 OUTPUT (out), 7 VCC (power), 8 REF (out)

## TL3845P
designator U?
PWM Controller with Current Control, 50 % Duty Cycle, 0 to +70 degC, 8-pin PDIP (P), Pb-Free (RoHS); PartNumber: TL3845P; Manufacturer: Texas Instruments; Duty Cycle(Max)(%): 50; Frequency(Max)(kHz): 500; Rating: Catalog; Regulated Outputs(#): 1; Topology: Boost, Flyback, Forward; UVLO Thresholds On/Off(V): 8.4/7.6; DatasheetVersion: SLVS038G; PackageVersion: revE, Apr-2010; PackageReference: P8; PackageDescription: 8-Pin Plastic Dual-In-Line Package, Row Spacing 7.62 mm, Pitch 2.54 mm; Supplier 1: Digi-Key; Supplier Part Number 1: 296-10180-5-ND; Supplier 2: Farnell; Supplier Part Number 2: 1287641; Supplier 3: Newark; Supplier Part Number 3: 76C9256; Supplier 4: Mouser; Supplier Part Number 4: 595-TL3845P; Control Method: Current; Eco-Plan: Pb-Free (RoHS); SubFamily: PWM Controller; Mounting Technology: Through Hole; Code_JEDEC: MS-001-BA; ComponentLink1Description: Datasheet; ComponentLink1URL: http://www.ti.com/general/docs/lit/getliterature.tsp?genericPartNumber=TL3845&fileType=pdf
footprint P8 (DIP, 8-Leads, Row Spacing 7.62mm, Pitch 2.54mm, Body 9.6x6.4mm)
pins: 1 COMP (out), 2 VFB (in), 3 ISENSE (in), 4 RT/CT, 5 GND (power), 6 OUTPUT (out), 7 VCC (power), 8 REF (out)

## TL3845PE4
designator U?
PWM Controller with Current Control, 50 % Duty Cycle, 0 to +70 degC, 8-pin PDIP (P), Pb-Free (RoHS); PartNumber: TL3845PE4; Manufacturer: Texas Instruments; Duty Cycle(Max)(%): 50; Frequency(Max)(kHz): 500; Rating: Catalog; Regulated Outputs(#): 1; Topology: Boost, Flyback, Forward; UVLO Thresholds On/Off(V): 8.4/7.6; DatasheetVersion: SLVS038G; PackageVersion: revE, Apr-2010; PackageReference: P8; PackageDescription: 8-Pin Plastic Dual-In-Line Package, Row Spacing 7.62 mm, Pitch 2.54 mm; Supplier 1: Digi-Key; Supplier Part Number 1: TL3845PE4-ND; Supplier 2: Newark; Supplier Part Number 2: 37K4473; Supplier 3: Mouser; Supplier Part Number 3: 595-TL3845PE4; Control Method: Current; Eco-Plan: Pb-Free(RoHS); SubFamily: PWM Controller; Mounting Technology: Through Hole; Code_JEDEC: MS-001-BA; ComponentLink1Description: Datasheet; ComponentLink1URL: http://www.ti.com/general/docs/lit/getliterature.tsp?genericPartNumber=TL3845&fileType=pdf
footprint P8 (DIP, 8-Leads, Row Spacing 7.62mm, Pitch 2.54mm, Body 9.6x6.4mm)
pins: 1 COMP (out), 2 VFB (in), 3 ISENSE (in), 4 RT/CT, 5 GND (power), 6 OUTPUT (out), 7 VCC (power), 8 REF (out)

## TPS3106K33MDBVREP
designator U?
Ultra-Low Supply-Current / Supply Voltage Supervisory Circuit, -55 to +125 degC, 6-pin SOT-23 (DBV), Green (RoHS & no Sb/Br); PartNumber: TPS3106K33MDBVREP; Manufacturer: Texas Instruments; Rating: HiRel Enhanced Product; SubFamily: PWM Controller; DatasheetVersion: SLVS686; PackageVersion: revK, Mar-2006; PackageReference: DBV6; PackageDescription: 6-Pin Plastic Small-Outline Package, 2.9 x 1.6 mm Body, 0.95 mm Pitch, 2.8 mm Lead Span; Supplier 1: Digi-Key; Supplier Part Number 1: 296-21616-2-ND; Supplier 2: Digi-Key; Supplier Part Number 2: 296-21616-1-ND; Supplier 3: Digi-Key; Supplier Part Number 3: 296-21616-6-ND; Supplier 4: Newark; Supplier Part Number 4: 46M1092; Supplier 5: Mouser; Supplier Part Number 5: 595-PS3106K33MDBVREP; Eco-Plan: Green (RoHS & no Sb/Br); Mounting Technology: Surface Mount; Code_JEDEC: MO-178-AB*; ComponentLink1Description: Datasheet; ComponentLink1URL: http://www.ti.com/general/docs/lit/getliterature.tsp?genericPartNumber=TPS3106-EP&fileType=pdf
footprint DBV6_N (SOT23, 6-Leads, Body 2.9x1.6mm, Pitch 0.95mm, Lead Span 2.8mm, IPC Medium Density)
footprint DBV6_L (SOT23, 6-Leads, Body 2.9x1.6mm, Pitch 0.95mm, Lead Span 2.8mm, IPC High Density)
footprint DBV6_M (SOT23, 6-Leads, Body 2.9x1.6mm, Pitch 0.95mm, Lead Span 2.8mm, IPC Low Density)
pins: 1 ~{RSTVDD} (out) "Active-low reset output. Logic level at R\S\T\V\D\D\ only depends on the voltage at VDD and the status of M\R\.", 2 GND (power) "Ground", 3 ~{MR} (in) "Manual reset input. Pull low to force a reset. R\E\S\E\T\ remains low as long as M\R\ is low and for the timeout period after M\R\ goes high. Leave unconnected or connect to VDD when unused.", 4 SENSE (in) "Sense. A reset is asserted if the voltage at SENSE is lower than 0.551 V. Connect to VDD if TPS3110 unused.", 5 ~{RSTSENSE} (out) "Active-low reset output. Logic level at R\S\T\S\E\N\S\E\ only depends on the voltage at SENSE and the status of M\R\.", 6 VDD (power) "Supply voltage. Powers the device and monitors its own voltage."

## TPS40211DGQ
designator U?
4.5 to 52 V Input Current Mode Boost Controller, 95 % Duty Cycle, -40 to +125 degC, 10-pin MSOP-PowerPAD (DGQ), Green (RoHS & no Sb/Br); PartNumber: TPS40211DGQ; Manufacturer: Texas Instruments; Duty Cycle(Max)(%): 95; Rating: Catalog; Regulated Outputs(#): 1; SubFamily: PWM Controller; Switching Frequency(Max)(kHz): 1000; DatasheetVersion: SLUS772E; PackageVersion: revF, Nov-2011; PackageReference: DGQ10-1675X1445TP; PackageDescription: 10-Pin PowerPAD Plastic Small Outline 0.5 mm Pitch, Exposed Pad; Supplier 1: Digi-Key; Supplier Part Number 1: 296-23411-5-ND; Supplier 2: Digi-Key; Supplier Part Number 2: 296-23411-2-ND; Supplier 3: Farnell; Supplier Part Number 3: 1755636; Supplier 4: Newark; Supplier Part Number 4: 95M0048; Supplier 5: Mouser; Supplier Part Number 5: 595-TPS40211DGQ; Eco-Plan: Green (RoHS & no Sb/Br); Topology: Boost; Mounting Technology: Surface Mount; Code_JEDEC: MO-187-BA-T; ComponentLink1Description: Datasheet; ComponentLink1URL: http://www.ti.com/general/docs/lit/getliterature.tsp?genericPartNumber=TPS40211&fileType=pdf
footprint DGQ10-1675X1445TP_N (TSSOP, 10-Leads, Body 3x3mm, Pitch 0.5mm, Thermal Pad 1.88x1.57mm, IPC Medium Density)
footprint DGQ10-1675X1445TP_L (TSSOP, 10-Leads, Body 3x3mm, Pitch 0.5mm, Thermal Pad 1.88x1.57mm, IPC High Density)
footprint DGQ10-1675X1445TP_M (TSSOP, 10-Leads, Body 3x3mm, Pitch 0.5mm, Thermal Pad 1.88x1.57mm, IPC Low Density)
pins: 1 RC "Swiching frequency setting pin . Connect a resistor from RC pin to VDD of the IC power supply and a capacitor from RC to GND.", 2 SS (in) "Soft-start time programming pin . Connect capacitor from SS pin to GND to program converter soft-start time This pin also functions as time out timer when the power supply is in an overcurrent condition.", 3 DIS/~{EN} (in) "Disable pin. Pulling this pin high, places the part into a shutdown mode. Shutdown mode is characterized by a very low quiescent current. While in shut down mode , the functionality of all blocks is disabled and thr BP (See Datasheet)", 4 COMP (out) "Error amplifier output. Connect control loop compensation network between COMP pin and FB pin.", 5 FB (in) "Error amplifier inverting input . Connect 3 voltage divider from the output to this pin to set voltage . Compensation network is connect between this pin and COMP .", 6 GND (power) "Device ground.", 7 ISNS (in) "Current sense pin. Connect an external current sensing resistor between this pin and GND. The voltage on this pin is used to provide current feedback in the control loop and overcurrent condition . An overcurrent condition (See Datasheet)", 8 GDRV (out) "Connect the gate of the power N channel MOSFET to this pin.", 9 BP (out) "Regulator output pin. Connect a 1.0-uF bypass capacitor from this pin to GND.", 10 VDD (power) "System input voltage. Connect a local bypass capacitor from this pin to GND. Depending on the amount of VDD 10 I required slope compensation, this pin can be connected to the converter output.", 11 EP "Exposed thermal pad"

## TPS40211DGQG4
designator U?
4.5 to 52 V Input Current Mode Boost Controller, 95 % Duty Cycle, -40 to +125 degC, 11-pin MSOP-PowerPAD (DGQ), Green (RoHS & no Sb/Br); PartNumber: TPS40211DGQG4; Manufacturer: Texas Instruments; Duty Cycle(Max)(%): 95; Rating: Catalog; Regulated Outputs(#): 1; SubFamily: PWM Controller; Switching Frequency(Max)(kHz): 1000; DatasheetVersion: SLUS772E; PackageVersion: revF, Nov-2011; PackageReference: DGQ10-1675X1445TP; PackageDescription: 10-Pin PowerPAD Plastic Small Outline 0.5 mm Pitch, Exposed Pad; Supplier 1: Digi-Key; Supplier Part Number 1: TPS40211DGQG4-ND; Supplier 2: Mouser; Supplier Part Number 2: 595-TPS40211DGQG4; Eco-Plan: Green (RoHS & no Sb/Br); Topology: Boost; Mounting Technology: Surface Mount; Code_JEDEC: MO-187-BA-T; ComponentLink1Description: Datasheet; ComponentLink1URL: http://www.ti.com/general/docs/lit/getliterature.tsp?genericPartNumber=TPS40211&fileType=pdf
footprint DGQ10-1675X1445TP_N (TSSOP, 10-Leads, Body 3x3mm, Pitch 0.5mm, Thermal Pad 1.88x1.57mm, IPC Medium Density)
footprint DGQ10-1675X1445TP_L (TSSOP, 10-Leads, Body 3x3mm, Pitch 0.5mm, Thermal Pad 1.88x1.57mm, IPC High Density)
footprint DGQ10-1675X1445TP_M (TSSOP, 10-Leads, Body 3x3mm, Pitch 0.5mm, Thermal Pad 1.88x1.57mm, IPC Low Density)
pins: 1 RC "Swiching frequency setting pin . Connect a resistor from RC pin to VDD of the IC power supply and a capacitor from RC to GND.", 2 SS (in) "Soft-start time programming pin . Connect capacitor from SS pin to GND to program converter soft-start time This pin also functions as time out timer when the power supply is in an overcurrent condition.", 3 DIS/~{EN} (in) "Disable pin. Pulling this pin high, places the part into a shutdown mode. Shutdown mode is characterized by a very low quiescent current. While in shut down mode , the functionality of all blocks is disabled and thr BP (See Datasheet)", 4 COMP (out) "Error amplifier output. Connect control loop compensation network between COMP pin and FB pin.", 5 FB (in) "Error amplifier inverting input . Connect 3 voltage divider from the output to this pin to set voltage . Compensation network is connect between this pin and COMP .", 6 GND (power) "Device ground.", 7 ISNS (in) "Current sense pin. Connect an external current sensing resistor between this pin and GND. The voltage on this pin is used to provide current feedback in the control loop and overcurrent condition . An overcurrent condition (See Datasheet)", 8 GDRV (out) "Connect the gate of the power N channel MOSFET to this pin.", 9 BP (out) "Regulator output pin. Connect a 1.0-uF bypass capacitor from this pin to GND.", 10 VDD (power) "System input voltage. Connect a local bypass capacitor from this pin to GND. Depending on the amount of VDD 10 I required slope compensation, this pin can be connected to the converter output.", 11 EP "Exposed thermal pad"

## TPS40211DGQR
designator U?
4.5 to 52 V Input Current Mode Boost Controller, 95 % Duty Cycle, -40 to +125 degC, 10-pin MSOP-PowerPAD (DGQ), Green (RoHS & no Sb/Br); PartNumber: TPS40211DGQR; Manufacturer: Texas Instruments; Duty Cycle(Max)(%): 95; Rating: Catalog; Regulated Outputs(#): 1; SubFamily: PWM Controller; Switching Frequency(Max)(kHz): 1000; DatasheetVersion: SLUS772E; PackageVersion: revF, Nov-2011; PackageReference: DGQ10-1675X1445TP; PackageDescription: 10-Pin PowerPAD Plastic Small Outline 0.5 mm Pitch, Exposed Pad; Supplier 1: Digi-Key; Supplier Part Number 1: TPS40211DGQR-ND; Supplier 2: Mouser; Supplier Part Number 2: 595-TPS40211DGQR; Eco-Plan: Green (RoHS & no Sb/Br); Topology: Boost; Mounting Technology: Surface Mount; Code_JEDEC: MO-187-BA-T; ComponentLink1Description: Datasheet; ComponentLink1URL: http://www.ti.com/general/docs/lit/getliterature.tsp?genericPartNumber=TPS40211&fileType=pdf
footprint DGQ10-1675X1445TP_N (TSSOP, 10-Leads, Body 3x3mm, Pitch 0.5mm, Thermal Pad 1.88x1.57mm, IPC Medium Density)
footprint DGQ10-1675X1445TP_L (TSSOP, 10-Leads, Body 3x3mm, Pitch 0.5mm, Thermal Pad 1.88x1.57mm, IPC High Density)
footprint DGQ10-1675X1445TP_M (TSSOP, 10-Leads, Body 3x3mm, Pitch 0.5mm, Thermal Pad 1.88x1.57mm, IPC Low Density)
pins: 1 RC "Swiching frequency setting pin . Connect a resistor from RC pin to VDD of the IC power supply and a capacitor from RC to GND.", 2 SS (in) "Soft-start time programming pin . Connect capacitor from SS pin to GND to program converter soft-start time This pin also functions as time out timer when the power supply is in an overcurrent condition.", 3 DIS/~{EN} (in) "Disable pin. Pulling this pin high, places the part into a shutdown mode. Shutdown mode is characterized by a very low quiescent current. While in shut down mode , the functionality of all blocks is disabled and thr BP (See Datasheet)", 4 COMP (out) "Error amplifier output. Connect control loop compensation network between COMP pin and FB pin.", 5 FB (in) "Error amplifier inverting input . Connect 3 voltage divider from the output to this pin to set voltage . Compensation network is connect between this pin and COMP .", 6 GND (power) "Device ground.", 7 ISNS (in) "Current sense pin. Connect an external current sensing resistor between this pin and GND. The voltage on this pin is used to provide current feedback in the control loop and overcurrent condition . An overcurrent condition (See Datasheet)", 8 GDRV (out) "Connect the gate of the power N channel MOSFET to this pin.", 9 BP (out) "Regulator output pin. Connect a 1.0-uF bypass capacitor from this pin to GND.", 10 VDD (power) "System input voltage. Connect a local bypass capacitor from this pin to GND. Depending on the amount of VDD 10 I required slope compensation, this pin can be connected to the converter output.", 11 EP "Exposed thermal pad"

## TPS40211DGQRG4
designator U?
4.5 to 52 V Input Current Mode Boost Controller, 95 % Duty Cycle, -40 to +125 degC, 10-pin MSOP-PowerPAD (DGQ), Green (RoHS & no Sb/Br); PartNumber: TPS40211DGQRG4; Manufacturer: Texas Instruments; Duty Cycle(Max)(%): 95; Rating: Catalog; Regulated Outputs(#): 1; SubFamily: PWM Controller; Switching Frequency(Max)(kHz): 1000; DatasheetVersion: SLUS772E; PackageVersion: revF, Nov-2011; PackageReference: DGQ10-1675X1445TP; PackageDescription: 10-Pin PowerPAD Plastic Small Outline 0.5 mm Pitch, Exposed Pad; Supplier 1: Digi-Key; Supplier Part Number 1: TPS40211DGQRG4-ND; Supplier 2: Newark; Supplier Part Number 2: 03P5188; Supplier 3: Mouser; Supplier Part Number 3: 595-TPS40211DGQRG4; Eco-Plan: Green (RoHS & no Sb/Br); Topology: Boost; Mounting Technology: Surface Mount; Code_JEDEC: MO-187-BA-T; ComponentLink1Description: Datasheet; ComponentLink1URL: http://www.ti.com/general/docs/lit/getliterature.tsp?genericPartNumber=TPS40211&fileType=pdf
footprint DGQ10-1675X1445TP_N (TSSOP, 10-Leads, Body 3x3mm, Pitch 0.5mm, Thermal Pad 1.88x1.57mm, IPC Medium Density)
footprint DGQ10-1675X1445TP_L (TSSOP, 10-Leads, Body 3x3mm, Pitch 0.5mm, Thermal Pad 1.88x1.57mm, IPC High Density)
footprint DGQ10-1675X1445TP_M (TSSOP, 10-Leads, Body 3x3mm, Pitch 0.5mm, Thermal Pad 1.88x1.57mm, IPC Low Density)
pins: 1 RC "Swiching frequency setting pin . Connect a resistor from RC pin to VDD of the IC power supply and a capacitor from RC to GND.", 2 SS (in) "Soft-start time programming pin . Connect capacitor from SS pin to GND to program converter soft-start time This pin also functions as time out timer when the power supply is in an overcurrent condition.", 3 DIS/~{EN} (in) "Disable pin. Pulling this pin high, places the part into a shutdown mode. Shutdown mode is characterized by a very low quiescent current. While in shut down mode , the functionality of all blocks is disabled and thr BP (See Datasheet)", 4 COMP (out) "Error amplifier output. Connect control loop compensation network between COMP pin and FB pin.", 5 FB (in) "Error amplifier inverting input . Connect 3 voltage divider from the output to this pin to set voltage . Compensation network is connect between this pin and COMP .", 6 GND (power) "Device ground.", 7 ISNS (in) "Current sense pin. Connect an external current sensing resistor between this pin and GND. The voltage on this pin is used to provide current feedback in the control loop and overcurrent condition . An overcurrent condition (See Datasheet)", 8 GDRV (out) "Connect the gate of the power N channel MOSFET to this pin.", 9 BP (out) "Regulator output pin. Connect a 1.0-uF bypass capacitor from this pin to GND.", 10 VDD (power) "System input voltage. Connect a local bypass capacitor from this pin to GND. Depending on the amount of VDD 10 I required slope compensation, this pin can be connected to the converter output.", 11 EP "Exposed thermal pad"

## TPS40211DRCR
designator U?
4.5 to 52 V Input Current Mode Boost Controller, 95 % Duty Cycle, -40 to +125 degC, 10-pin SON (DRC), Green (RoHS & no Sb/Br); PartNumber: TPS40211DRCR; Manufacturer: Texas Instruments; Duty Cycle(Max)(%): 95; Rating: Catalog; Regulated Outputs(#): 1; SubFamily: PWM Controller; Switching Frequency(Max)(kHz): 1000; DatasheetVersion: SLUS772E; PackageVersion: revL, Sep-2011; PackageReference: DRC10-2400X1650TP; PackageDescription: 10-Pin Plastic Small Outline No-Lead, 3 x 3 x 1 mm Body, 0.5 mm Pitch, Exposed Pad; Supplier 1: Digi-Key; Supplier Part Number 1: TPS40211DRCR-ND; Supplier 2: Mouser; Supplier Part Number 2: 595-TPS40211DRCR; Eco-Plan: Green (RoHS & no Sb/Br); Topology: Boost; Mounting Technology: Surface Mount; ComponentLink1Description: Datasheet; ComponentLink1URL: http://www.ti.com/general/docs/lit/getliterature.tsp?genericPartNumber=TPS40211&fileType=pdf
footprint DRC10-2400X1650TP (SON, 10-Leads, Body 3x3mm, Pitch 0.5mm, Thermal Pad 2.4x1.65mm, TI Recommended)
pins: 1 RC "Switching frequency setting pin. Connect a resistor from RC pin to VDD of the IC power supply and a capacitor from RC to GND.", 2 SS (in) "Soft-start time programming pin. Connect capacitor from SS pin to GND to program converter soft-start time. This pin also functions as a timeout timer when the power supply is in an overcurrent condition.", 3 DIS/~{EN} "Disable pin. Pulling this pin high, places the part into a shutdown mode. Shutdown mode is characterized by a very low quiescent current. While in shutdown mode, the functionality of all blocks is disabled and the BP (See Datasheet)", 4 COMP (out) "Error amplifier output. Connect control loop compensation network between COMP pin and FB pin.", 5 FB (in) "Error amplifier inverting input. Connect a voltage divider from the output to this pin to set output voltage. Compensation network is connected between this pin and COMP.", 6 GND (power) "Device ground.", 7 ISNS (in) "Current sense pin. Connect an external current sensing resistor between this pin and GND. The voltage on this pin is used to provide current feedback in the control loop and detect an overcurrent condition. An overcurrent (See Datasheet)", 8 GDRV (out) "Connect the gate of the power N channel MOSFET to this pin.", 9 BP (out) "Regulator output pin. Connect a 1.0-uF bypass capacitor from this pin to GND.", 10 VDD (power) "System input voltage. Connect a local bypass capacitor from this pin to GND. Depending on the amount of required slope compensation, this pin can be connected to the converter output. See Application Information section for (See Datasheet)", 11 EP "Exposed thermal pad"